# Altium footprint library BUZZER-30MM_PTH.PcbLib: 1 footprints
Each footprint in its own frame and in the unit in brackets; x right, y up, seen from the top. Pads: shape width x height; smd on the part's side, far side on the other; paste and mask are expansions set on the pad; w line width, h text height; cw(c..) or ccw(c..) is an arc to the next point about the centre after c.
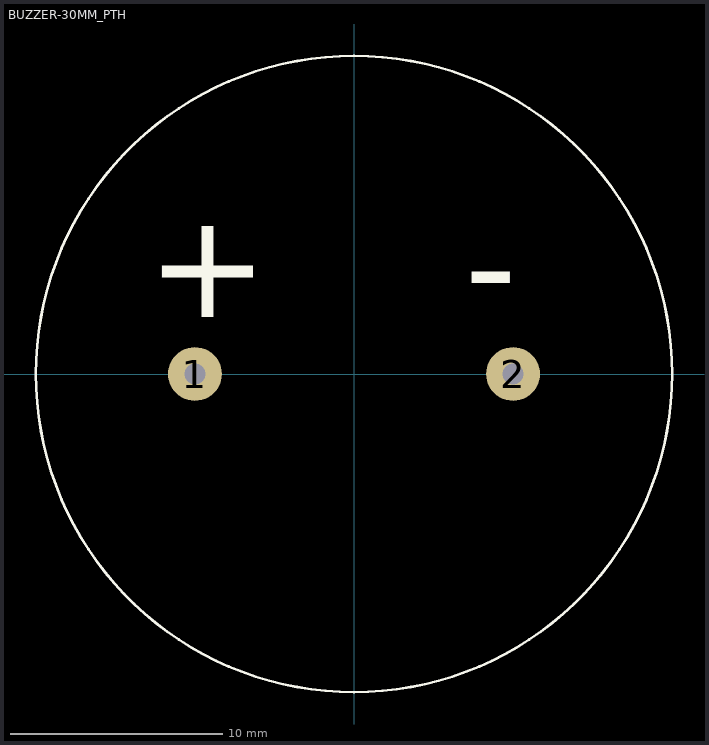
[diagram p0: the footprint, top view; thin cyan lines are the x and y axes]

## BUZZER-30MM_PTH [mm]
pads (2):
  round 2.54 hole 1: 1(-7.5,0) 2(7.5,0)
Top Overlay:
  circle w0.127: c0,0 r15
  text "-" at 5.221,2.667 h5
  text "+" at -9.779,2.667 h5
3D body "AI-3035-TWT-3V-R--3DModel-STEP-1.STEP": height 20.65, standoff -4.5, extent -15,-14.997 15.01,14.995